# Altium footprint library 常用非芯片类.PcbLib: 10 footprints
Each footprint in its own frame and in the unit in brackets; x right, y up, seen from the top. Pads: shape width x height; smd on the part's side, far side on the other; paste and mask are expansions set on the pad; w line width, h text height; cw(c..) or ccw(c..) is an arc to the next point about the centre after c.
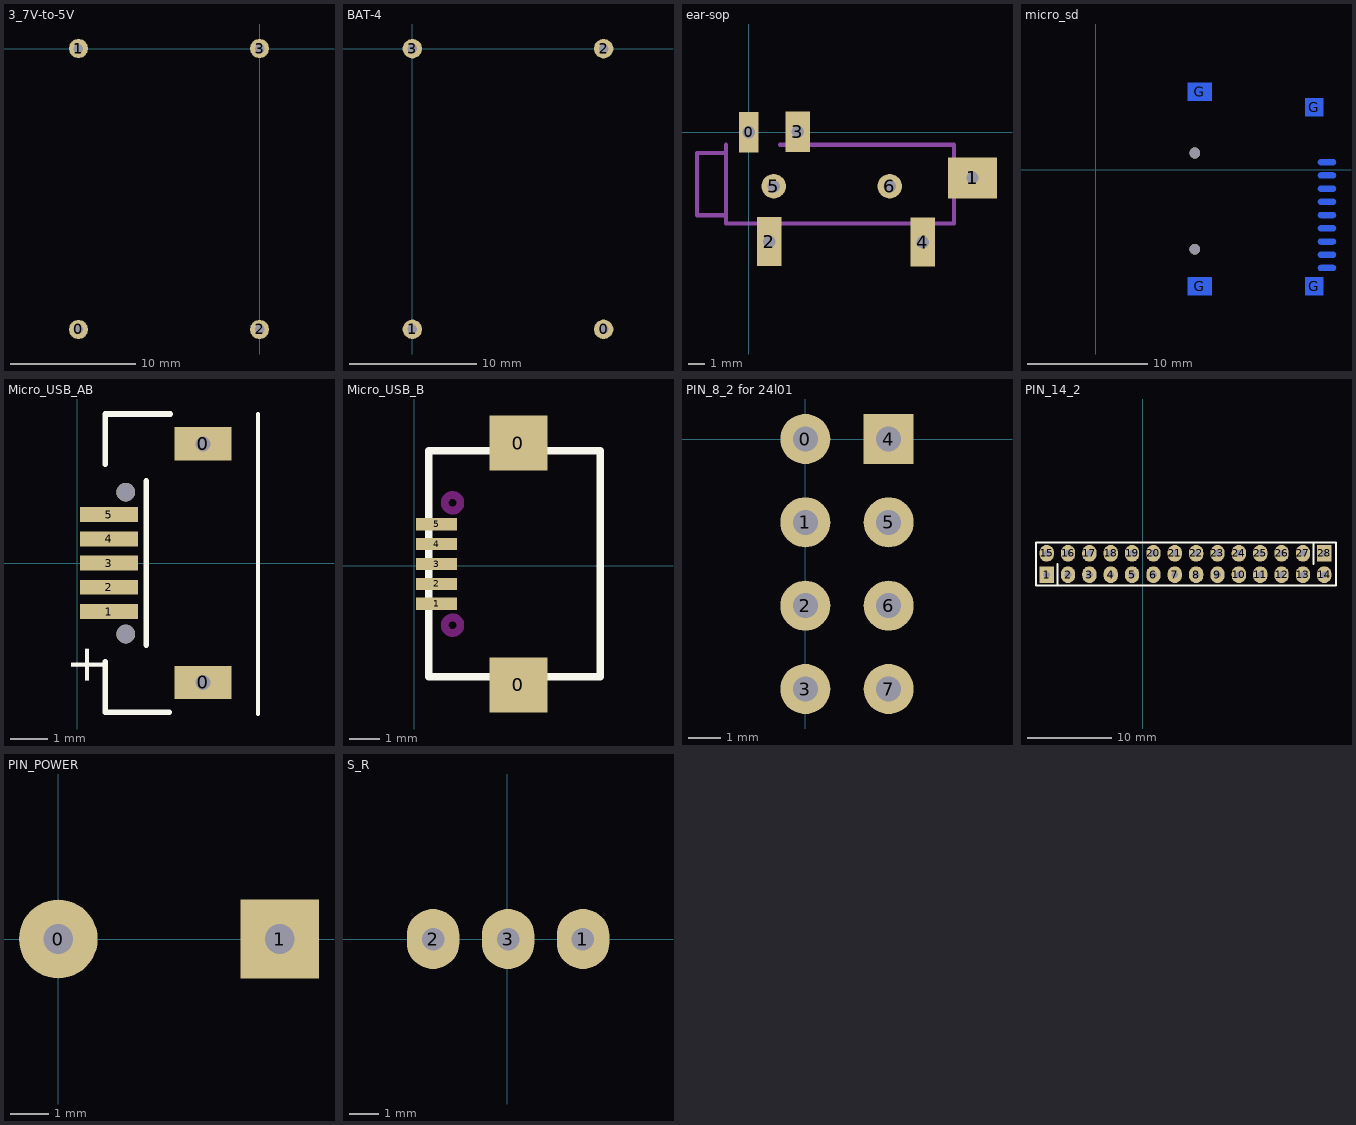
[diagram p0: the footprints below, top view; thin cyan lines are the x and y axes]

## 3_7V-to-5V [mil]
pads (4):
  round 60 hole 30: 0(-570.87,-885.83) 1(-570.87,0) 2(0,-885.83) 3(0,0)

## BAT-4 [mil]
pads (4):
  round 60 hole 30: 0(590.55,-866.14) 1(0,-866.14) 2(590.55,0) 3(0,0)

## ear-sop [mil]
pads (7):
  rect 47.24x98.43 hole 30: 0(0,0)
  rect 118.11x98.43 hole 30: 1(540,-110)
  rect 60x118.11 hole 30: 2(49.21,-263.78) 4(420,-265)
  rect 60x98.43 hole 30: 3(118.11,1.22)
  round 59.06 hole 30: 5(60,-130) 6(340,-130)
Mechanical 1:
  lines w10: -125,-50 -125,-200 -55,-200 ; -120,-50 -55,-50 ; -55,-30 -55,-220 495,-220 495,-30 75,-30

## micro_sd [mm]
pads (13):
  oval 1.5x0.5 smd far side: 1(19.23,0.639) 2(19.23,-0.461) 3(19.23,-1.561) 4(19.23,-2.661) 5(19.23,-3.761) 6(19.23,-4.861) 7(19.23,-5.961) 8(19.23,-7.061) 9(19.23,-8.161)
  rect 2x1.5 smd far side: G(8.63,-9.691) G(8.63,6.509)
  rect 1.5x1.5 smd far side: G(18.18,-9.691) G(18.18,5.209)
via 8.23,-6.591 diameter 0.889 hole 0.889
via 8.23,1.41 diameter 0.889 hole 0.889
Bottom Overlay:
  lines w0.254: 4.18,2.56 4.18,5.76 18.73,5.759 18.73,-8.941 4.93,-8.941 4.93,-0.04 ; 4.185,2.563 cw(c-0.025,-0.05) 4.93,-0.05
3D body: height 2.38, standoff -0.09, extent 4.242,-9.703 19.452,6.604

## Micro_USB_AB [mm]
pads (9):
  rect 1.524x0.889 hole 0.4 square: 0(3.375,-3.2) 0(3.375,3.2)
  rect 1.55x0.4 smd: 1(0.848,-1.3) 2(0.848,-0.65) 3(0.848,0) 4(0.848,0.65) 5(0.848,1.3)
  round 0.5 hole 0.5 unplated: ""(1.3,-1.905) ""(1.3,1.905)
Top Overlay:
  lines w0.1: 4.848,-4.05 4.848,4
  lines w0.152: 0.748,-2.65 0.748,-4 2.464,-4 ; 0.748,2.65 0.748,4 2.498,4 ; 1.848,-2.2 1.848,2.2
  text "+" at 0.698,-3.3 h1

## Micro_USB_B [mm]
pads (7):
  rect 1.9x1.8 smd: 0(3.395,-3.899) 0(3.395,4.001)
  rect 1.35x0.4 smd: 1(0.72,-1.249) 2(0.72,-0.599) 3(0.72,0.051) 4(0.72,0.701) 5(0.72,1.351)
Top Overlay:
  lines w0.254: 6.066,3.736 6.066,-3.632 0.466,-3.632 0.466,3.751 6.066,3.751
Keep-Out Layer:
  circle w0.254: c1.245,-1.949 r0.254
  circle w0.254: c1.245,2.051 r0.254

## PIN_8_2 for 24l01 [mil]
pads (8):
  round 60 hole 30: 0(0,0) 1(0,-100) 2(0,-200) 3(0,-300) 5(100,-100) 6(100,-200) 7(100,-300)
  rect 60x60 hole 30: 4(100,0)

## PIN_14_2 [mm] "PIN_14_2"
pads (28):
  rect 1.7x2 hole 0.813: 1(-11.43,-29.464) 28(21.59,-26.924)
  oval 1.7x2 hole 0.813: 2(-8.89,-29.464) 3(-6.35,-29.464) 4(-3.81,-29.464) 5(-1.27,-29.464) 6(1.27,-29.464) 7(3.81,-29.464) 8(6.35,-29.464) 9(8.89,-29.464) 10(11.43,-29.464) 11(13.97,-29.464) 12(16.51,-29.464) 13(19.05,-29.464) 14(21.59,-29.464) 15(-11.43,-26.924) 16(-8.89,-26.924) 17(-6.35,-26.924) 18(-3.81,-26.924) 19(-1.27,-26.924) 20(1.27,-26.924) 21(3.81,-26.924) 22(6.35,-26.924) 23(8.89,-26.924) 24(11.43,-26.924) 25(13.97,-26.924) 26(16.51,-26.924) 27(19.05,-26.924)
Top Overlay:
  lines w0.254: -10.16,-30.734 -10.16,-28.194 ; 20.32,-28.194 20.32,-25.781 ; -12.7,-30.734 22.987,-30.734 22.987,-28.194 22.987,-25.654 -12.7,-25.654 -12.7,-28.194 -12.7,-30.734

## PIN_POWER [mil]
pads (2):
  round 80 hole 30: 0(0,0)
  rect 80x80 hole 30: 1(225,0)

## S_R [mil]
pads (3):
  oval 70x80 hole 30: 1(100.85,0.27) 2(-99.15,0.27) 3(0.85,0.27)
Bottom Overlay:
  circle w10: c-150.15,-50.73 r36.06
  lines w10: -180.15,-40.73 -140.15,-80.73 -150.15,-80.73 ; -172.03,-78.85 -170.15,-80.73 ; -170.15,-20.73 -150.15,-40.73 -120.15,-70.73 -120.15,-60.73 -160.15,-20.73 -140.15,-20.73 ; -156.91,-73.98 -163.39,-73.98 -170.15,-80.73 ; -170.15,-80.73 -170.15,-61.2 -169.92,-60.97 -172.03,-60.97 -186.2,-46.79 -186.2,-50.73 -172.03,-64.91 -165.97,-64.91 -150.15,-80.73 ; -170.15,-80.73 -150.15,-80.73 ; -140.15,-30.73 -150.15,-30.73 -140.15,-20.73 ; -140.15,-30.73 -130.15,-30.73 ; -140.15,-30.73 -140.15,-20.73 ; -140.15,-30.73 -120.15,-50.73 -120.15,-40.73 -130.15,-30.73 ; -140.15,-20.73 -130.15,-30.73 ; -199.15,-99.73 -199.15,100.27 200.85,100.27 200.85,-99.73 0.85,-99.73 -199.15,-99.73